# Altium schematic symbol library 282837-6.SchLib: 1 symbol
Pins are listed as number, name and electrical type; pins without a type are passive.

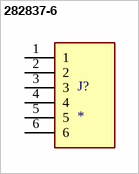
[diagram p0: symbol 282837-6]

## 282837-6
designator J?
MP: 282837-6; MF: {'manufacturer': u'TE Connectivity'}; Value: *; Availability: Unavailable; Package: None; Price: None
footprint TE_282837-6
pins: 1, 2, 3, 4, 5, 6